# Altium schematic symbol library SCH - FPGA - AMD - AMD XILINX XCKU5P-2FFVB676I.SchLib: 1 symbol
Pins are listed as number, name and electrical type; pins without a type are passive.

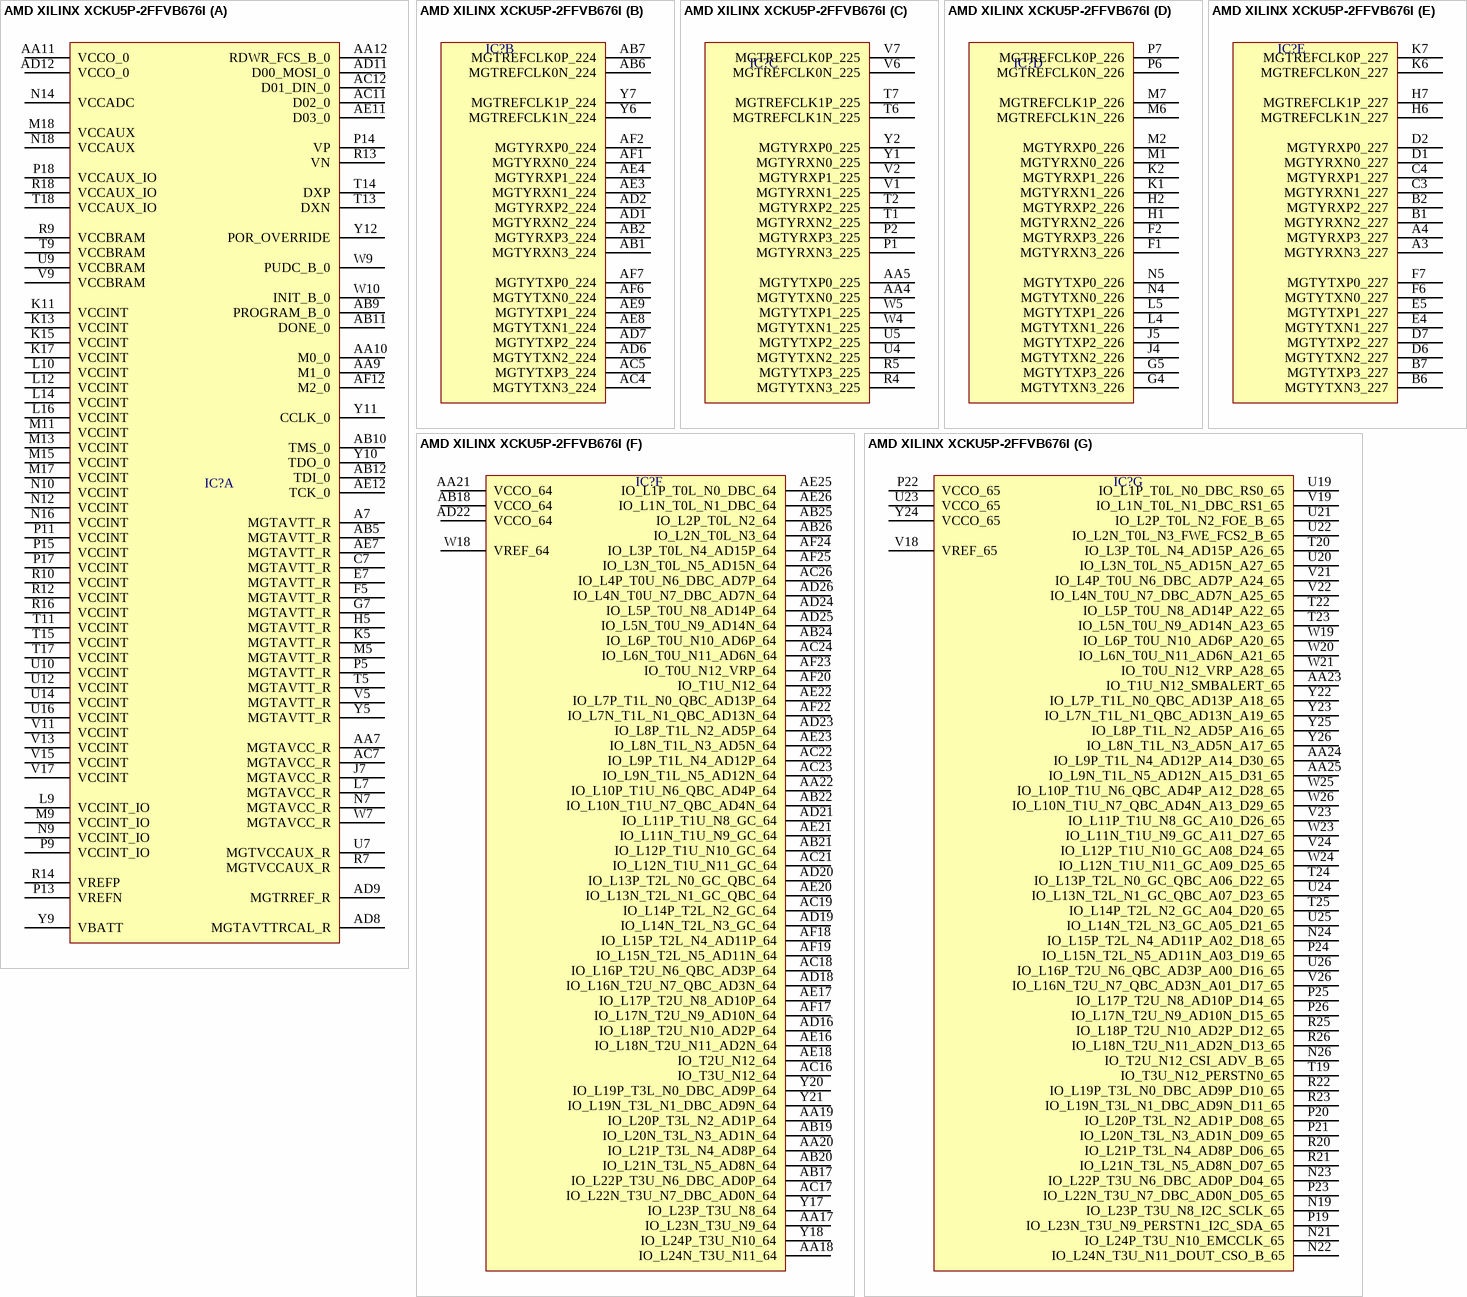
[diagram p0: symbol AMD XILINX XCKU5P-2FFVB676I]

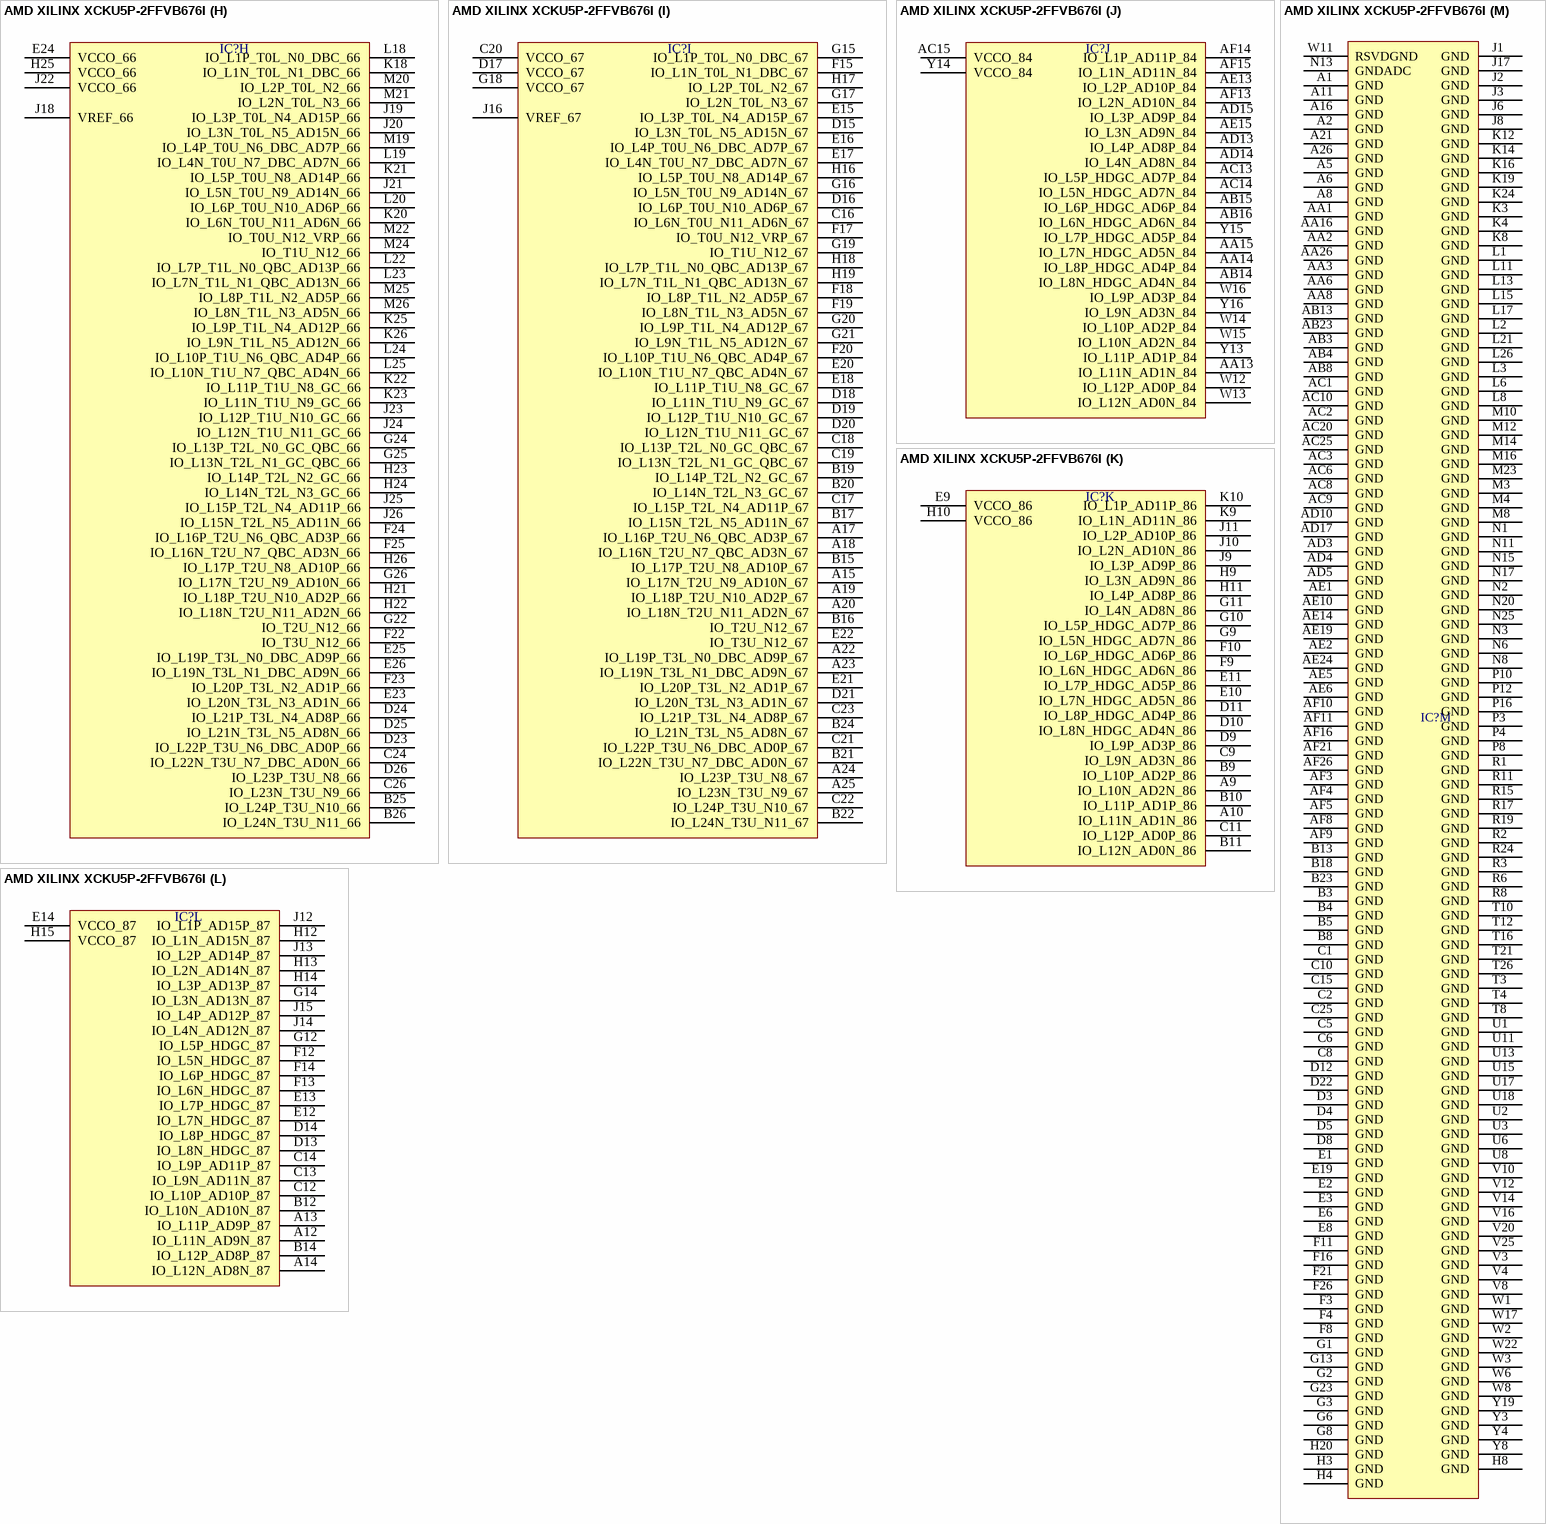
[diagram p1: symbol AMD XILINX XCKU5P-2FFVB676I]

## AMD XILINX XCKU5P-2FFVB676I
designator IC?
part A pins: A7 MGTAVTT_R, AA7 MGTAVCC_R, AA9 M1_0, AA10 M0_0, AA11 VCCO_0, AA12 RDWR_FCS_B_0, AB5 MGTAVTT_R, AB9 PROGRAM_B_0, AB10 TMS_0, AB11 DONE_0, AB12 TDI_0, AC7 MGTAVCC_R, AC11 D02_0, AC12 D01_DIN_0, AD8 MGTAVTTRCAL_R, AD9 MGTRREF_R, AD11 D00_MOSI_0, AD12 VCCO_0, AE7 MGTAVTT_R, AE11 D03_0, AE12 TCK_0, AF12 M2_0, C7 MGTAVTT_R, E7 MGTAVTT_R, F5 MGTAVTT_R, G7 MGTAVTT_R, H5 MGTAVTT_R, J7 MGTAVCC_R, K5 MGTAVTT_R, K11 VCCINT, K13 VCCINT, K15 VCCINT, K17 VCCINT, L7 MGTAVCC_R, L9 VCCINT_IO, L10 VCCINT, L12 VCCINT, L14 VCCINT, L16 VCCINT, M5 MGTAVTT_R, M9 VCCINT_IO, M11 VCCINT, M13 VCCINT, M15 VCCINT, M17 VCCINT, M18 VCCAUX, N7 MGTAVCC_R, N9 VCCINT_IO, N10 VCCINT, N12 VCCINT, N14 VCCADC, N16 VCCINT, N18 VCCAUX, P5 MGTAVTT_R, P9 VCCINT_IO, P11 VCCINT, P13 VREFN, P14 VP, P15 VCCINT, P17 VCCINT, P18 VCCAUX_IO, R7 MGTVCCAUX_R, R9 VCCBRAM, R10 VCCINT, R12 VCCINT, R13 VN, R14 VREFP, R16 VCCINT, R18 VCCAUX_IO, T5 MGTAVTT_R, T9 VCCBRAM, T11 VCCINT, T13 DXN, T14 DXP, T15 VCCINT, T17 VCCINT, T18 VCCAUX_IO, U7 MGTVCCAUX_R, U9 VCCBRAM, U10 VCCINT, U12 VCCINT, U14 VCCINT, U16 VCCINT, V5 MGTAVTT_R, V9 VCCBRAM, V11 VCCINT, V13 VCCINT, V15 VCCINT, V17 VCCINT, W7 MGTAVCC_R, W9 PUDC_B_0, W10 INIT_B_0, Y5 MGTAVTT_R, Y9 VBATT, Y10 TDO_0, Y11 CCLK_0, Y12 POR_OVERRIDE
part B pins: AB1 MGTYRXN3_224, AB2 MGTYRXP3_224, AB6 MGTREFCLK0N_224, AB7 MGTREFCLK0P_224, AC4 MGTYTXN3_224, AC5 MGTYTXP3_224, AD1 MGTYRXN2_224, AD2 MGTYRXP2_224, AD6 MGTYTXN2_224, AD7 MGTYTXP2_224, AE3 MGTYRXN1_224, AE4 MGTYRXP1_224, AE8 MGTYTXN1_224, AE9 MGTYTXP1_224, AF1 MGTYRXN0_224, AF2 MGTYRXP0_224, AF6 MGTYTXN0_224, AF7 MGTYTXP0_224, Y6 MGTREFCLK1N_224, Y7 MGTREFCLK1P_224
part C pins: AA4 MGTYTXN0_225, AA5 MGTYTXP0_225, P1 MGTYRXN3_225, P2 MGTYRXP3_225, R4 MGTYTXN3_225, R5 MGTYTXP3_225, T1 MGTYRXN2_225, T2 MGTYRXP2_225, T6 MGTREFCLK1N_225, T7 MGTREFCLK1P_225, U4 MGTYTXN2_225, U5 MGTYTXP2_225, V1 MGTYRXN1_225, V2 MGTYRXP1_225, V6 MGTREFCLK0N_225, V7 MGTREFCLK0P_225, W4 MGTYTXN1_225, W5 MGTYTXP1_225, Y1 MGTYRXN0_225, Y2 MGTYRXP0_225
part D pins: F1 MGTYRXN3_226, F2 MGTYRXP3_226, G4 MGTYTXN3_226, G5 MGTYTXP3_226, H1 MGTYRXN2_226, H2 MGTYRXP2_226, J4 MGTYTXN2_226, J5 MGTYTXP2_226, K1 MGTYRXN1_226, K2 MGTYRXP1_226, L4 MGTYTXN1_226, L5 MGTYTXP1_226, M1 MGTYRXN0_226, M2 MGTYRXP0_226, M6 MGTREFCLK1N_226, M7 MGTREFCLK1P_226, N4 MGTYTXN0_226, N5 MGTYTXP0_226, P6 MGTREFCLK0N_226, P7 MGTREFCLK0P_226
part E pins: A3 MGTYRXN3_227, A4 MGTYRXP3_227, B1 MGTYRXN2_227, B2 MGTYRXP2_227, B6 MGTYTXN3_227, B7 MGTYTXP3_227, C3 MGTYRXN1_227, C4 MGTYRXP1_227, D1 MGTYRXN0_227, D2 MGTYRXP0_227, D6 MGTYTXN2_227, D7 MGTYTXP2_227, E4 MGTYTXN1_227, E5 MGTYTXP1_227, F6 MGTYTXN0_227, F7 MGTYTXP0_227, H6 MGTREFCLK1N_227, H7 MGTREFCLK1P_227, K6 MGTREFCLK0N_227, K7 MGTREFCLK0P_227
part F pins: AA17 IO_L23N_T3U_N9_64, AA18 IO_L24N_T3U_N11_64, AA19 IO_L20P_T3L_N2_AD1P_64, AA20 IO_L21P_T3L_N4_AD8P_64, AA21 VCCO_64, AA22 IO_L10P_T1U_N6_QBC_AD4P_64, AB17 IO_L22P_T3U_N6_DBC_AD0P_64, AB18 VCCO_64, AB19 IO_L20N_T3L_N3_AD1N_64, AB20 IO_L21N_T3L_N5_AD8N_64, AB21 IO_L12P_T1U_N10_GC_64, AB22 IO_L10N_T1U_N7_QBC_AD4N_64, AB24 IO_L6P_T0U_N10_AD6P_64, AB25 IO_L2P_T0L_N2_64, AB26 IO_L2N_T0L_N3_64, AC16 IO_T3U_N12_64, AC17 IO_L22N_T3U_N7_DBC_AD0N_64, AC18 IO_L16P_T2U_N6_QBC_AD3P_64, AC19 IO_L14P_T2L_N2_GC_64, AC21 IO_L12N_T1U_N11_GC_64, AC22 IO_L9P_T1L_N4_AD12P_64, AC23 IO_L9N_T1L_N5_AD12N_64, AC24 IO_L6N_T0U_N11_AD6N_64, AC26 IO_L4P_T0U_N6_DBC_AD7P_64, AD16 IO_L18P_T2U_N10_AD2P_64, AD18 IO_L16N_T2U_N7_QBC_AD3N_64, AD19 IO_L14N_T2L_N3_GC_64, AD20 IO_L13P_T2L_N0_GC_QBC_64, AD21 IO_L11P_T1U_N8_GC_64, AD22 VCCO_64, AD23 IO_L8P_T1L_N2_AD5P_64, AD24 IO_L5P_T0U_N8_AD14P_64, AD25 IO_L5N_T0U_N9_AD14N_64, AD26 IO_L4N_T0U_N7_DBC_AD7N_64, AE16 IO_L18N_T2U_N11_AD2N_64, AE17 IO_L17P_T2U_N8_AD10P_64, AE18 IO_T2U_N12_64, AE20 IO_L13N_T2L_N1_GC_QBC_64, AE21 IO_L11N_T1U_N9_GC_64, AE22 IO_L7P_T1L_N0_QBC_AD13P_64, AE23 IO_L8N_T1L_N3_AD5N_64, AE25 IO_L1P_T0L_N0_DBC_64, AE26 IO_L1N_T0L_N1_DBC_64, AF17 IO_L17N_T2U_N9_AD10N_64, AF18 IO_L15P_T2L_N4_AD11P_64, AF19 IO_L15N_T2L_N5_AD11N_64, AF20 IO_T1U_N12_64, AF22 IO_L7N_T1L_N1_QBC_AD13N_64, AF23 IO_T0U_N12_VRP_64, AF24 IO_L3P_T0L_N4_AD15P_64, AF25 IO_L3N_T0L_N5_AD15N_64, W18 VREF_64, Y17 IO_L23P_T3U_N8_64, Y18 IO_L24P_T3U_N10_64, Y20 IO_L19P_T3L_N0_DBC_AD9P_64, Y21 IO_L19N_T3L_N1_DBC_AD9N_64
part G pins: AA23 IO_T1U_N12_SMBALERT_65, AA24 IO_L9P_T1L_N4_AD12P_A14_D30_65, AA25 IO_L9N_T1L_N5_AD12N_A15_D31_65, N19 IO_L23P_T3U_N8_I2C_SCLK_65, N21 IO_L24P_T3U_N10_EMCCLK_65, N22 IO_L24N_T3U_N11_DOUT_CSO_B_65, N23 IO_L22P_T3U_N6_DBC_AD0P_D04_65, N24 IO_L15P_T2L_N4_AD11P_A02_D18_65, N26 IO_T2U_N12_CSI_ADV_B_65, P19 IO_L23N_T3U_N9_PERSTN1_I2C_SDA_65, P20 IO_L20P_T3L_N2_AD1P_D08_65, P21 IO_L20N_T3L_N3_AD1N_D09_65, P22 VCCO_65, P23 IO_L22N_T3U_N7_DBC_AD0N_D05_65, P24 IO_L15N_T2L_N5_AD11N_A03_D19_65, P25 IO_L17P_T2U_N8_AD10P_D14_65, P26 IO_L17N_T2U_N9_AD10N_D15_65, R20 IO_L21P_T3L_N4_AD8P_D06_65, R21 IO_L21N_T3L_N5_AD8N_D07_65, R22 IO_L19P_T3L_N0_DBC_AD9P_D10_65, R23 IO_L19N_T3L_N1_DBC_AD9N_D11_65, R25 IO_L18P_T2U_N10_AD2P_D12_65, R26 IO_L18N_T2U_N11_AD2N_D13_65, T19 IO_T3U_N12_PERSTN0_65, T20 IO_L3P_T0L_N4_AD15P_A26_65, T22 IO_L5P_T0U_N8_AD14P_A22_65, T23 IO_L5N_T0U_N9_AD14N_A23_65, T24 IO_L13P_T2L_N0_GC_QBC_A06_D22_65, T25 IO_L14P_T2L_N2_GC_A04_D20_65, U19 IO_L1P_T0L_N0_DBC_RS0_65, U20 IO_L3N_T0L_N5_AD15N_A27_65, U21 IO_L2P_T0L_N2_FOE_B_65, U22 IO_L2N_T0L_N3_FWE_FCS2_B_65, U23 VCCO_65, U24 IO_L13N_T2L_N1_GC_QBC_A07_D23_65, U25 IO_L14N_T2L_N3_GC_A05_D21_65, U26 IO_L16P_T2U_N6_QBC_AD3P_A00_D16_65, V18 VREF_65, V19 IO_L1N_T0L_N1_DBC_RS1_65, V21 IO_L4P_T0U_N6_DBC_AD7P_A24_65, V22 IO_L4N_T0U_N7_DBC_AD7N_A25_65, V23 IO_L11P_T1U_N8_GC_A10_D26_65, V24 IO_L12P_T1U_N10_GC_A08_D24_65, V26 IO_L16N_T2U_N7_QBC_AD3N_A01_D17_65, W19 IO_L6P_T0U_N10_AD6P_A20_65, W20 IO_L6N_T0U_N11_AD6N_A21_65, W21 IO_T0U_N12_VRP_A28_65, W23 IO_L11N_T1U_N9_GC_A11_D27_65, W24 IO_L12N_T1U_N11_GC_A09_D25_65, W25 IO_L10P_T1U_N6_QBC_AD4P_A12_D28_65, W26 IO_L10N_T1U_N7_QBC_AD4N_A13_D29_65, Y22 IO_L7P_T1L_N0_QBC_AD13P_A18_65, Y23 IO_L7N_T1L_N1_QBC_AD13N_A19_65, Y24 VCCO_65, Y25 IO_L8P_T1L_N2_AD5P_A16_65, Y26 IO_L8N_T1L_N3_AD5N_A17_65
part H pins: B25 IO_L24P_T3U_N10_66, B26 IO_L24N_T3U_N11_66, C24 IO_L22N_T3U_N7_DBC_AD0N_66, C26 IO_L23N_T3U_N9_66, D23 IO_L22P_T3U_N6_DBC_AD0P_66, D24 IO_L21P_T3L_N4_AD8P_66, D25 IO_L21N_T3L_N5_AD8N_66, D26 IO_L23P_T3U_N8_66, E23 IO_L20N_T3L_N3_AD1N_66, E24 VCCO_66, E25 IO_L19P_T3L_N0_DBC_AD9P_66, E26 IO_L19N_T3L_N1_DBC_AD9N_66, F22 IO_T3U_N12_66, F23 IO_L20P_T3L_N2_AD1P_66, F24 IO_L16P_T2U_N6_QBC_AD3P_66, F25 IO_L16N_T2U_N7_QBC_AD3N_66, G22 IO_T2U_N12_66, G24 IO_L13P_T2L_N0_GC_QBC_66, G25 IO_L13N_T2L_N1_GC_QBC_66, G26 IO_L17N_T2U_N9_AD10N_66, H21 IO_L18P_T2U_N10_AD2P_66, H22 IO_L18N_T2U_N11_AD2N_66, H23 IO_L14P_T2L_N2_GC_66, H24 IO_L14N_T2L_N3_GC_66, H25 VCCO_66, H26 IO_L17P_T2U_N8_AD10P_66, J18 VREF_66, J19 IO_L3P_T0L_N4_AD15P_66, J20 IO_L3N_T0L_N5_AD15N_66, J21 IO_L5N_T0U_N9_AD14N_66, J22 VCCO_66, J23 IO_L12P_T1U_N10_GC_66, J24 IO_L12N_T1U_N11_GC_66, J25 IO_L15P_T2L_N4_AD11P_66, J26 IO_L15N_T2L_N5_AD11N_66, K18 IO_L1N_T0L_N1_DBC_66, K20 IO_L6N_T0U_N11_AD6N_66, K21 IO_L5P_T0U_N8_AD14P_66, K22 IO_L11P_T1U_N8_GC_66, K23 IO_L11N_T1U_N9_GC_66, K25 IO_L9P_T1L_N4_AD12P_66, K26 IO_L9N_T1L_N5_AD12N_66, L18 IO_L1P_T0L_N0_DBC_66, L19 IO_L4N_T0U_N7_DBC_AD7N_66, L20 IO_L6P_T0U_N10_AD6P_66, L22 IO_L7P_T1L_N0_QBC_AD13P_66, L23 IO_L7N_T1L_N1_QBC_AD13N_66, L24 IO_L10P_T1U_N6_QBC_AD4P_66, L25 IO_L10N_T1U_N7_QBC_AD4N_66, M19 IO_L4P_T0U_N6_DBC_AD7P_66, M20 IO_L2P_T0L_N2_66, M21 IO_L2N_T0L_N3_66, M22 IO_T0U_N12_VRP_66, M24 IO_T1U_N12_66, M25 IO_L8P_T1L_N2_AD5P_66, M26 IO_L8N_T1L_N3_AD5N_66
part I pins: A15 IO_L17N_T2U_N9_AD10N_67, A17 IO_L16P_T2U_N6_QBC_AD3P_67, A18 IO_L16N_T2U_N7_QBC_AD3N_67, A19 IO_L18P_T2U_N10_AD2P_67, A20 IO_L18N_T2U_N11_AD2N_67, A22 IO_L19P_T3L_N0_DBC_AD9P_67, A23 IO_L19N_T3L_N1_DBC_AD9N_67, A24 IO_L23P_T3U_N8_67, A25 IO_L23N_T3U_N9_67, B15 IO_L17P_T2U_N8_AD10P_67, B16 IO_T2U_N12_67, B17 IO_L15N_T2L_N5_AD11N_67, B19 IO_L14P_T2L_N2_GC_67, B20 IO_L14N_T2L_N3_GC_67, B21 IO_L22N_T3U_N7_DBC_AD0N_67, B22 IO_L24N_T3U_N11_67, B24 IO_L21N_T3L_N5_AD8N_67, C16 IO_L6N_T0U_N11_AD6N_67, C17 IO_L15P_T2L_N4_AD11P_67, C18 IO_L13P_T2L_N0_GC_QBC_67, C19 IO_L13N_T2L_N1_GC_QBC_67, C20 VCCO_67, C21 IO_L22P_T3U_N6_DBC_AD0P_67, C22 IO_L24P_T3U_N10_67, C23 IO_L21P_T3L_N4_AD8P_67, D15 IO_L3N_T0L_N5_AD15N_67, D16 IO_L6P_T0U_N10_AD6P_67, D17 VCCO_67, D18 IO_L11N_T1U_N9_GC_67, D19 IO_L12P_T1U_N10_GC_67, D20 IO_L12N_T1U_N11_GC_67, D21 IO_L20N_T3L_N3_AD1N_67, E15 IO_L3P_T0L_N4_AD15P_67, E16 IO_L4P_T0U_N6_DBC_AD7P_67, E17 IO_L4N_T0U_N7_DBC_AD7N_67, E18 IO_L11P_T1U_N8_GC_67, E20 IO_L10N_T1U_N7_QBC_AD4N_67, E21 IO_L20P_T3L_N2_AD1P_67, E22 IO_T3U_N12_67, F15 IO_L1N_T0L_N1_DBC_67, F17 IO_T0U_N12_VRP_67, F18 IO_L8P_T1L_N2_AD5P_67, F19 IO_L8N_T1L_N3_AD5N_67, F20 IO_L10P_T1U_N6_QBC_AD4P_67, G15 IO_L1P_T0L_N0_DBC_67, G16 IO_L5N_T0U_N9_AD14N_67, G17 IO_L2N_T0L_N3_67, G18 VCCO_67, G19 IO_T1U_N12_67, G20 IO_L9P_T1L_N4_AD12P_67, G21 IO_L9N_T1L_N5_AD12N_67, H16 IO_L5P_T0U_N8_AD14P_67, H17 IO_L2P_T0L_N2_67, H18 IO_L7P_T1L_N0_QBC_AD13P_67, H19 IO_L7N_T1L_N1_QBC_AD13N_67, J16 VREF_67
part J pins: AA13 IO_L11N_AD1N_84, AA14 IO_L8P_HDGC_AD4P_84, AA15 IO_L7N_HDGC_AD5N_84, AB14 IO_L8N_HDGC_AD4N_84, AB15 IO_L6P_HDGC_AD6P_84, AB16 IO_L6N_HDGC_AD6N_84, AC13 IO_L5P_HDGC_AD7P_84, AC14 IO_L5N_HDGC_AD7N_84, AC15 VCCO_84, AD13 IO_L4P_AD8P_84, AD14 IO_L4N_AD8N_84, AD15 IO_L3P_AD9P_84, AE13 IO_L2P_AD10P_84, AE15 IO_L3N_AD9N_84, AF13 IO_L2N_AD10N_84, AF14 IO_L1P_AD11P_84, AF15 IO_L1N_AD11N_84, W12 IO_L12P_AD0P_84, W13 IO_L12N_AD0N_84, W14 IO_L10P_AD2P_84, W15 IO_L10N_AD2N_84, W16 IO_L9P_AD3P_84, Y13 IO_L11P_AD1P_84, Y14 VCCO_84, Y15 IO_L7P_HDGC_AD5P_84, Y16 IO_L9N_AD3N_84
part K pins: A9 IO_L10N_AD2N_86, A10 IO_L11N_AD1N_86, B9 IO_L10P_AD2P_86, B10 IO_L11P_AD1P_86, B11 IO_L12N_AD0N_86, C9 IO_L9N_AD3N_86, C11 IO_L12P_AD0P_86, D9 IO_L9P_AD3P_86, D10 IO_L8N_HDGC_AD4N_86, D11 IO_L8P_HDGC_AD4P_86, E9 VCCO_86, E10 IO_L7N_HDGC_AD5N_86, E11 IO_L7P_HDGC_AD5P_86, F9 IO_L6N_HDGC_AD6N_86, F10 IO_L6P_HDGC_AD6P_86, G9 IO_L5N_HDGC_AD7N_86, G10 IO_L5P_HDGC_AD7P_86, G11 IO_L4N_AD8N_86, H9 IO_L3N_AD9N_86, H10 VCCO_86, H11 IO_L4P_AD8P_86, J9 IO_L3P_AD9P_86, J10 IO_L2N_AD10N_86, J11 IO_L2P_AD10P_86, K9 IO_L1N_AD11N_86, K10 IO_L1P_AD11P_86
part L pins: A12 IO_L11N_AD9N_87, A13 IO_L11P_AD9P_87, A14 IO_L12N_AD8N_87, B12 IO_L10N_AD10N_87, B14 IO_L12P_AD8P_87, C12 IO_L10P_AD10P_87, C13 IO_L9N_AD11N_87, C14 IO_L9P_AD11P_87, D13 IO_L8N_HDGC_87, D14 IO_L8P_HDGC_87, E12 IO_L7N_HDGC_87, E13 IO_L7P_HDGC_87, E14 VCCO_87, F12 IO_L5N_HDGC_87, F13 IO_L6N_HDGC_87, F14 IO_L6P_HDGC_87, G12 IO_L5P_HDGC_87, G14 IO_L3N_AD13N_87, H12 IO_L1N_AD15N_87, H13 IO_L2N_AD14N_87, H14 IO_L3P_AD13P_87, H15 VCCO_87, J12 IO_L1P_AD15P_87, J13 IO_L2P_AD14P_87, J14 IO_L4N_AD12N_87, J15 IO_L4P_AD12P_87
part M pins: A1 GND, A2 GND, A5 GND, A6 GND, A8 GND, A11 GND, A16 GND, A21 GND, A26 GND, AA1 GND, AA2 GND, AA3 GND, AA6 GND, AA8 GND, AA16 GND, AA26 GND, AB3 GND, AB4 GND, AB8 GND, AB13 GND, AB23 GND, AC1 GND, AC2 GND, AC3 GND, AC6 GND, AC8 GND, AC9 GND, AC10 GND, AC20 GND, AC25 GND, AD3 GND, AD4 GND, AD5 GND, AD10 GND, AD17 GND, AE1 GND, AE2 GND, AE5 GND, AE6 GND, AE10 GND, AE14 GND, AE19 GND, AE24 GND, AF3 GND, AF4 GND, AF5 GND, AF8 GND, AF9 GND, AF10 GND, AF11 GND, AF16 GND, AF21 GND, AF26 GND, B3 GND, B4 GND, B5 GND, B8 GND, B13 GND, B18 GND, B23 GND, C1 GND, C2 GND, C5 GND, C6 GND, C8 GND, C10 GND, C15 GND, C25 GND, D3 GND, D4 GND, D5 GND, D8 GND, D12 GND, D22 GND, E1 GND, E2 GND, E3 GND, E6 GND, E8 GND, E19 GND, F3 GND, F4 GND, F8 GND, F11 GND, F16 GND, F21 GND, F26 GND, G1 GND, G2 GND, G3 GND, G6 GND, G8 GND, G13 GND, G23 GND, H3 GND, H4 GND, H8 GND, H20 GND, J1 GND, J2 GND, J3 GND, J6 GND, J8 GND, J17 GND, K3 GND, K4 GND, K8 GND, K12 GND, K14 GND, K16 GND, K19 GND, K24 GND, L1 GND, L2 GND, L3 GND, L6 GND, L8 GND, L11 GND, L13 GND, L15 GND, L17 GND, L21 GND, L26 GND, M3 GND, M4 GND, M8 GND, M10 GND, M12 GND, M14 GND, M16 GND, M23 GND, N1 GND, N2 GND, N3 GND, N6 GND, N8 GND, N11 GND, N13 GNDADC, N15 GND, N17 GND, N20 GND, N25 GND, P3 GND, P4 GND, P8 GND, P10 GND, P12 GND, P16 GND, R1 GND, R2 GND, R3 GND, R6 GND, R8 GND, R11 GND, R15 GND, R17 GND, R19 GND, R24 GND, T3 GND, T4 GND, T8 GND, T10 GND, T12 GND, T16 GND, T21 GND, T26 GND, U1 GND, U2 GND, U3 GND, U6 GND, U8 GND, U11 GND, U13 GND, U15 GND, U17 GND, U18 GND, V3 GND, V4 GND, V8 GND, V10 GND, V12 GND, V14 GND, V16 GND, V20 GND, V25 GND, W1 GND, W2 GND, W3 GND, W6 GND, W8 GND, W11 RSVDGND, W17 GND, W22 GND, Y3 GND, Y4 GND, Y8 GND, Y19 GND